# EAGLE library part USB_MICRO-B (library AddItems)
USB Type Micro-B Connector Male/female and PTH/SMT variants SparkFun Products: SparkFun microB USB Breakout <âhttps://www.sparkfun.com/products/12035â> SparkFun USB microB Plug Breakout <âhttps://www.sparkfun.com/products/10031â> SparkFun ESP8266 Thing <âhttps://www.sparkfun.com/products/13231â>
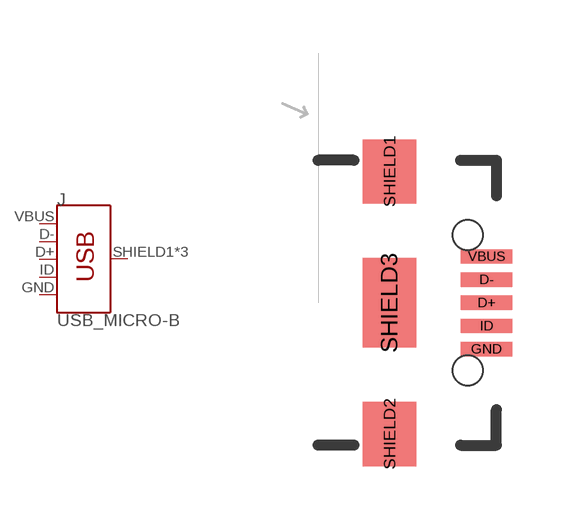
[diagram p3: symbol with the pads of USB-B-MICRO-SMD; footprint USB-B-MICRO-SMD]

Designator prefix J

## USB_MICRO-B_FEMALE-SMT (PROD_ID: CONN-11752)  [USB-B-MICRO-SMD]
D+  D+
D-  D-
GND  GND  pwr
ID  ID
SHIELD1  SHIELD
SHIELD2  SHIELD
SHIELD3  SHIELD
VBUS  VBUS  pwr

## Footprint USB-B-MICRO-SMD (pad centres in mm)
USB - microB SMD Specifications: Pin count:5 Datasheet referenced for footprint <âhttps://www.sparkfun.com/datasheets/Prototyping/Micro-USB.pdfâ> Example device(s): USB_MICRO-B
smd 1.45 x 0.4: D+ 2.725,0; D- 2.725,0.65; GND 2.725,-1.3; ID 2.725,-0.65; VBUS 2.725,1.3
smd 1.5 x 1.8: SHIELD1 0,3.685; SHIELD2 0,-3.685
smd 1.5 x 2.5: SHIELD3 0,0
hole 0.85 at 2.2,1.9
hole 0.85 at 2.2,-1.9